# Altium integrated library WE-PD (rev22a).IntLib: 359 symbols (part 4 of 6)
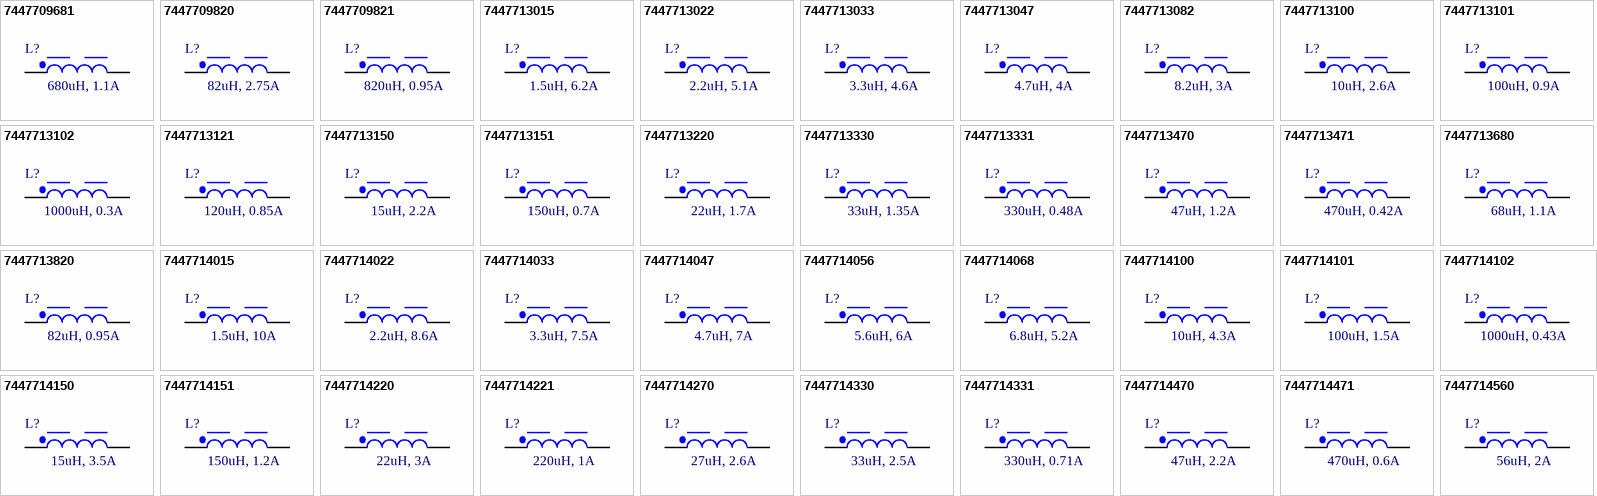
[diagram p11: symbols 7447709681 to 7447714560]

## 7447713022
designator L?, comment 2.2uH, 5.1A
WE-PD SMT Power Inductor, size 1030P, 2.2uH, 5.1A, 20mOhm; Manufacturer: Wurth Elektronik; Manufacturer Part Number: 7447713022; Self Resonant Frequency: 71MHz; DC Resistance typ.: 16.8mOhm; Saturation Current: 8.5A; Type: Performance; ComponentLink1Description: Manufacturer; ComponentLink1URL: http://www.we-online.de; ComponentLink2Description: Datasheet; ComponentLink2URL: https://www.we-online.com/catalog/datasheet/7447713022.pdf; Mounting Technology: SMT; Operating Temperature: -40 to +150degC; Packaging: Tape and Reel; DC Resistance max.: 20mOhm; Inductance: 2.2uH; Rated Current: 5.1A; Size: 1030P; Height: 3mm; Length: 10mm; Width: 10mm
footprint WE-PD_1030P
pins: 1, 2

## 7447713033
designator L?, comment 3.3uH, 4.6A
WE-PD SMT Power Inductor, size 1030P, 3.3uH, 4.6A, 24mOhm; Manufacturer: Wurth Elektronik; Manufacturer Part Number: 7447713033; Self Resonant Frequency: 50MHz; DC Resistance typ.: 20.4mOhm; Saturation Current: 7.2A; Type: Performance; ComponentLink1Description: Manufacturer; ComponentLink1URL: http://www.we-online.de; ComponentLink2Description: Datasheet; ComponentLink2URL: https://www.we-online.com/catalog/datasheet/7447713033.pdf; Mounting Technology: SMT; Operating Temperature: -40 to +150degC; Packaging: Tape and Reel; DC Resistance max.: 24mOhm; Inductance: 3.3uH; Rated Current: 4.6A; Size: 1030P; Height: 3mm; Length: 10mm; Width: 10mm
footprint WE-PD_1030P
pins: 1, 2

## 7447713047
designator L?, comment 4.7uH, 4A
WE-PD SMT Power Inductor, size 1030P, 4.7uH, 4A, 31mOhm; Manufacturer: Wurth Elektronik; Manufacturer Part Number: 7447713047; Self Resonant Frequency: 42MHz; DC Resistance typ.: 26mOhm; Saturation Current: 6A; Type: Performance; ComponentLink1Description: Manufacturer; ComponentLink1URL: http://www.we-online.de; ComponentLink2Description: Datasheet; ComponentLink2URL: https://www.we-online.com/catalog/datasheet/7447713047.pdf; Mounting Technology: SMT; Operating Temperature: -40 to +150degC; Packaging: Tape and Reel; DC Resistance max.: 31mOhm; Inductance: 4.7uH; Rated Current: 4A; Size: 1030P; Height: 3mm; Length: 10mm; Width: 10mm
footprint WE-PD_1030P
pins: 1, 2

## 7447713082
designator L?, comment 8.2uH, 3A
WE-PD SMT Power Inductor, size 1030P, 8.2uH, 3A, 49mOhm; Manufacturer: Wurth Elektronik; Manufacturer Part Number: 7447713082; Self Resonant Frequency: 30MHz; DC Resistance typ.: 41mOhm; Saturation Current: 4.7A; Type: Performance; ComponentLink1Description: Manufacturer; ComponentLink1URL: http://www.we-online.de; ComponentLink2Description: Datasheet; ComponentLink2URL: https://www.we-online.com/catalog/datasheet/7447713082.pdf; Mounting Technology: SMT; Operating Temperature: -40 to +150degC; Packaging: Tape and Reel; DC Resistance max.: 49mOhm; Inductance: 8.2uH; Rated Current: 3A; Size: 1030P; Height: 3mm; Length: 10mm; Width: 10mm
footprint WE-PD_1030P
pins: 1, 2

## 7447713100
designator L?, comment 10uH, 2.6A
WE-PD SMT Power Inductor, size 1030P, 10uH, 2.6A, 62mOhm; Manufacturer: Wurth Elektronik; Manufacturer Part Number: 7447713100; Self Resonant Frequency: 25MHz; DC Resistance typ.: 52mOhm; Saturation Current: 4.1A; Type: Performance; ComponentLink1Description: Manufacturer; ComponentLink1URL: http://www.we-online.de; ComponentLink2Description: Datasheet; ComponentLink2URL: https://www.we-online.com/catalog/datasheet/7447713100.pdf; Mounting Technology: SMT; Operating Temperature: -40 to +150degC; Packaging: Tape and Reel; DC Resistance max.: 62mOhm; Inductance: 10uH; Rated Current: 2.6A; Size: 1030P; Height: 3mm; Length: 10mm; Width: 10mm
footprint WE-PD_1030P
pins: 1, 2

## 7447713101
designator L?, comment 100uH, 0.9A
WE-PD SMT Power Inductor, size 1030P, 100uH, 0.9A, 478mOhm; Manufacturer: Wurth Elektronik; Manufacturer Part Number: 7447713101; Self Resonant Frequency: 7.7MHz; DC Resistance typ.: 398mOhm; Saturation Current: 1.4A; Type: Performance; ComponentLink1Description: Manufacturer; ComponentLink1URL: http://www.we-online.de; ComponentLink2Description: Datasheet; ComponentLink2URL: https://www.we-online.com/catalog/datasheet/7447713101.pdf; Mounting Technology: SMT; Operating Temperature: -40 to +150degC; Packaging: Tape and Reel; DC Resistance max.: 478mOhm; Inductance: 100uH; Rated Current: 0.9A; Size: 1030P; Height: 3mm; Length: 10mm; Width: 10mm
footprint WE-PD_1030P
pins: 1, 2

## 7447713102
designator L?, comment 1000uH, 0.3A
WE-PD SMT Power Inductor, size 1030P, 1000uH, 0.3A, 4600mOhm; Manufacturer: Wurth Elektronik; Manufacturer Part Number: 7447713102; Self Resonant Frequency: 2.3MHz; DC Resistance typ.: 4000mOhm; Saturation Current: 0.45A; Type: Performance; ComponentLink1Description: Manufacturer; ComponentLink1URL: http://www.we-online.de; ComponentLink2Description: Datasheet; ComponentLink2URL: https://www.we-online.com/catalog/datasheet/7447713102.pdf; Mounting Technology: SMT; Operating Temperature: -40 to +150degC; Packaging: Tape and Reel; DC Resistance max.: 4600mOhm; Inductance: 1000uH; Rated Current: 0.3A; Size: 1030P; Height: 3mm; Length: 10mm; Width: 10mm
footprint WE-PD_1030P
pins: 1, 2

## 7447713121
designator L?, comment 120uH, 0.85A
WE-PD SMT Power Inductor, size 1030P, 120uH, 0.85A, 598mOhm; Manufacturer: Wurth Elektronik; Manufacturer Part Number: 7447713121; Self Resonant Frequency: 7MHz; DC Resistance typ.: 498mOhm; Saturation Current: 1.25A; Type: Performance; ComponentLink1Description: Manufacturer; ComponentLink1URL: http://www.we-online.de; ComponentLink2Description: Datasheet; ComponentLink2URL: https://www.we-online.com/catalog/datasheet/7447713121.pdf; Mounting Technology: SMT; Operating Temperature: -40 to +150degC; Packaging: Tape and Reel; DC Resistance max.: 598mOhm; Inductance: 120uH; Rated Current: 0.85A; Size: 1030P; Height: 3mm; Length: 10mm; Width: 10mm
footprint WE-PD_1030P
pins: 1, 2

## 7447713150
designator L?, comment 15uH, 2.2A
WE-PD SMT Power Inductor, size 1030P, 15uH, 2.2A, 89mOhm; Manufacturer: Wurth Elektronik; Manufacturer Part Number: 7447713150; Self Resonant Frequency: 19.5MHz; DC Resistance typ.: 74mOhm; Saturation Current: 3.4A; Type: Performance; ComponentLink1Description: Manufacturer; ComponentLink1URL: http://www.we-online.de; ComponentLink2Description: Datasheet; ComponentLink2URL: https://www.we-online.com/catalog/datasheet/7447713150.pdf; Mounting Technology: SMT; Operating Temperature: -40 to +150degC; Packaging: Tape and Reel; DC Resistance max.: 89mOhm; Inductance: 15uH; Rated Current: 2.2A; Size: 1030P; Height: 3mm; Length: 10mm; Width: 10mm
footprint WE-PD_1030P
pins: 1, 2

## 7447713151
designator L?, comment 150uH, 0.7A
WE-PD SMT Power Inductor, size 1030P, 150uH, 0.7A, 684mOhm; Manufacturer: Wurth Elektronik; Manufacturer Part Number: 7447713151; Self Resonant Frequency: 6.1MHz; DC Resistance typ.: 570mOhm; Saturation Current: 1.1A; Type: Performance; ComponentLink1Description: Manufacturer; ComponentLink1URL: http://www.we-online.de; ComponentLink2Description: Datasheet; ComponentLink2URL: https://www.we-online.com/catalog/datasheet/7447713151.pdf; Mounting Technology: SMT; Operating Temperature: -40 to +150degC; Packaging: Tape and Reel; DC Resistance max.: 684mOhm; Inductance: 150uH; Rated Current: 0.7A; Size: 1030P; Height: 3mm; Length: 10mm; Width: 10mm
footprint WE-PD_1030P
pins: 1, 2

## 7447713220
designator L?, comment 22uH, 1.7A
WE-PD SMT Power Inductor, size 1030P, 22uH, 1.7A, 133mOhm; Manufacturer: Wurth Elektronik; Manufacturer Part Number: 7447713220; Self Resonant Frequency: 17.5MHz; DC Resistance typ.: 111mOhm; Saturation Current: 2.7A; Type: Performance; ComponentLink1Description: Manufacturer; ComponentLink1URL: http://www.we-online.de; ComponentLink2Description: Datasheet; ComponentLink2URL: https://www.we-online.com/catalog/datasheet/7447713220.pdf; Mounting Technology: SMT; Operating Temperature: -40 to +150degC; Packaging: Tape and Reel; DC Resistance max.: 133mOhm; Inductance: 22uH; Rated Current: 1.7A; Size: 1030P; Height: 3mm; Length: 10mm; Width: 10mm
footprint WE-PD_1030P
pins: 1, 2

## 7447713330
designator L?, comment 33uH, 1.35A
WE-PD SMT Power Inductor, size 1030P, 33uH, 1.35A, 204mOhm; Manufacturer: Wurth Elektronik; Manufacturer Part Number: 7447713330; Self Resonant Frequency: 13MHz; DC Resistance typ.: 170mOhm; Saturation Current: 2.2A; Type: Performance; ComponentLink1Description: Manufacturer; ComponentLink1URL: http://www.we-online.de; ComponentLink2Description: Datasheet; ComponentLink2URL: https://www.we-online.com/catalog/datasheet/7447713330.pdf; Mounting Technology: SMT; Operating Temperature: -40 to +150degC; Packaging: Tape and Reel; DC Resistance max.: 204mOhm; Inductance: 33uH; Rated Current: 1.35A; Size: 1030P; Height: 3mm; Length: 10mm; Width: 10mm
footprint WE-PD_1030P
pins: 1, 2

## 7447713331
designator L?, comment 330uH, 0.48A
WE-PD SMT Power Inductor, size 1030P, 330uH, 0.48A, 1500mOhm; Manufacturer: Wurth Elektronik; Manufacturer Part Number: 7447713331; Self Resonant Frequency: 4.3MHz; DC Resistance typ.: 1230mOhm; Saturation Current: 0.73A; Type: Performance; ComponentLink1Description: Manufacturer; ComponentLink1URL: http://www.we-online.de; ComponentLink2Description: Datasheet; ComponentLink2URL: https://www.we-online.com/catalog/datasheet/7447713331.pdf; Mounting Technology: SMT; Operating Temperature: -40 to +150degC; Packaging: Tape and Reel; DC Resistance max.: 1500mOhm; Inductance: 330uH; Rated Current: 0.48A; Size: 1030P; Height: 3mm; Length: 10mm; Width: 10mm
footprint WE-PD_1030P
pins: 1, 2

## 7447713470
designator L?, comment 47uH, 1.2A
WE-PD SMT Power Inductor, size 1030P, 47uH, 1.2A, 248mOhm; Manufacturer: Wurth Elektronik; Manufacturer Part Number: 7447713470; Self Resonant Frequency: 11.4MHz; DC Resistance typ.: 207mOhm; Saturation Current: 1.9A; Type: Performance; ComponentLink1Description: Manufacturer; ComponentLink1URL: http://www.we-online.de; ComponentLink2Description: Datasheet; ComponentLink2URL: https://www.we-online.com/catalog/datasheet/7447713470.pdf; Mounting Technology: SMT; Operating Temperature: -40 to +150degC; Packaging: Tape and Reel; DC Resistance max.: 248mOhm; Inductance: 47uH; Rated Current: 1.2A; Size: 1030P; Height: 3mm; Length: 10mm; Width: 10mm
footprint WE-PD_1030P
pins: 1, 2

## 7447713471
designator L?, comment 470uH, 0.42A
WE-PD SMT Power Inductor, size 1030P, 470uH, 0.42A, 2200mOhm; Manufacturer: Wurth Elektronik; Manufacturer Part Number: 7447713471; Self Resonant Frequency: 3.4MHz; DC Resistance typ.: 1850mOhm; Saturation Current: 0.65A; Type: Performance; ComponentLink1Description: Manufacturer; ComponentLink1URL: http://www.we-online.de; ComponentLink2Description: Datasheet; ComponentLink2URL: https://www.we-online.com/catalog/datasheet/7447713471.pdf; Mounting Technology: SMT; Operating Temperature: -40 to +150degC; Packaging: Tape and Reel; DC Resistance max.: 2200mOhm; Inductance: 470uH; Rated Current: 0.42A; Size: 1030P; Height: 3mm; Length: 10mm; Width: 10mm
footprint WE-PD_1030P
pins: 1, 2

## 7447713680
designator L?, comment 68uH, 1.1A
WE-PD SMT Power Inductor, size 1030P, 68uH, 1.1A, 330mOhm; Manufacturer: Wurth Elektronik; Manufacturer Part Number: 7447713680; Self Resonant Frequency: 9.4MHz; DC Resistance typ.: 275mOhm; Saturation Current: 1.6A; Type: Performance; ComponentLink1Description: Manufacturer; ComponentLink1URL: http://www.we-online.de; ComponentLink2Description: Datasheet; ComponentLink2URL: https://www.we-online.com/catalog/datasheet/7447713680.pdf; Mounting Technology: SMT; Operating Temperature: -40 to +150degC; Packaging: Tape and Reel; DC Resistance max.: 330mOhm; Inductance: 68uH; Rated Current: 1.1A; Size: 1030P; Height: 3mm; Length: 10mm; Width: 10mm
footprint WE-PD_1030P
pins: 1, 2

## 7447713820
designator L?, comment 82uH, 0.95A
WE-PD SMT Power Inductor, size 1030P, 82uH, 0.95A, 419mOhm; Manufacturer: Wurth Elektronik; Manufacturer Part Number: 7447713820; Self Resonant Frequency: 8.8MHz; DC Resistance typ.: 349mOhm; Saturation Current: 1.5A; Type: Performance; ComponentLink1Description: Manufacturer; ComponentLink1URL: http://www.we-online.de; ComponentLink2Description: Datasheet; ComponentLink2URL: https://www.we-online.com/catalog/datasheet/7447713820.pdf; Mounting Technology: SMT; Operating Temperature: -40 to +150degC; Packaging: Tape and Reel; DC Resistance max.: 419mOhm; Inductance: 82uH; Rated Current: 0.95A; Size: 1030P; Height: 3mm; Length: 10mm; Width: 10mm
footprint WE-PD_1030P
pins: 1, 2

## 7447714015
designator L?, comment 1.5uH, 10A
WE-PD SMT Power Inductor, size 1050P, 1.5uH, 10A, 6.6mOhm; Manufacturer: Wurth Elektronik; Manufacturer Part Number: 7447714015; Self Resonant Frequency: 69MHz; DC Resistance typ.: 5.55mOhm; Saturation Current: 12.5A; Type: Performance; ComponentLink1Description: Manufacturer; ComponentLink1URL: http://www.we-online.de; ComponentLink2Description: Datasheet; ComponentLink2URL: https://www.we-online.com/catalog/datasheet/7447714015.pdf; Mounting Technology: SMT; Operating Temperature: -40 to +150degC; Packaging: Tape and Reel; DC Resistance max.: 6.6mOhm; Inductance: 1.5uH; Rated Current: 10A; Size: 1050P; Height: 5mm; Length: 10mm; Width: 10mm
footprint WE-PD_1050P
pins: 1, 2

## 7447714022
designator L?, comment 2.2uH, 8.6A
WE-PD SMT Power Inductor, size 1050P, 2.2uH, 8.6A, 8mOhm; Manufacturer: Wurth Elektronik; Manufacturer Part Number: 7447714022; Self Resonant Frequency: 53MHz; DC Resistance typ.: 6.8mOhm; Saturation Current: 9.5A; Type: Performance; ComponentLink1Description: Manufacturer; ComponentLink1URL: http://www.we-online.de; ComponentLink2Description: Datasheet; ComponentLink2URL: https://www.we-online.com/catalog/datasheet/7447714022.pdf; Mounting Technology: SMT; Operating Temperature: -40 to +150degC; Packaging: Tape and Reel; DC Resistance max.: 8mOhm; Inductance: 2.2uH; Rated Current: 8.6A; Size: 1050P; Height: 5mm; Length: 10mm; Width: 10mm
footprint WE-PD_1050P
pins: 1, 2

## 7447714033
designator L?, comment 3.3uH, 7.5A
WE-PD SMT Power Inductor, size 1050P, 3.3uH, 7.5A, 10.5mOhm; Manufacturer: Wurth Elektronik; Manufacturer Part Number: 7447714033; Self Resonant Frequency: 42MHz; DC Resistance typ.: 8.9mOhm; Saturation Current: 9A; Type: Performance; ComponentLink1Description: Manufacturer; ComponentLink1URL: http://www.we-online.de; ComponentLink2Description: Datasheet; ComponentLink2URL: https://www.we-online.com/catalog/datasheet/7447714033.pdf; Mounting Technology: SMT; Operating Temperature: -40 to +150degC; Packaging: Tape and Reel; DC Resistance max.: 10.5mOhm; Inductance: 3.3uH; Rated Current: 7.5A; Size: 1050P; Height: 5mm; Length: 10mm; Width: 10mm
footprint WE-PD_1050P
pins: 1, 2

## 7447714047
designator L?, comment 4.7uH, 7A
WE-PD SMT Power Inductor, size 1050P, 4.7uH, 7A, 12.4mOhm; Manufacturer: Wurth Elektronik; Manufacturer Part Number: 7447714047; Self Resonant Frequency: 34MHz; DC Resistance typ.: 10.4mOhm; Saturation Current: 8A; Type: Performance; ComponentLink1Description: Manufacturer; ComponentLink1URL: http://www.we-online.de; ComponentLink2Description: Datasheet; ComponentLink2URL: https://www.we-online.com/catalog/datasheet/7447714047.pdf; Mounting Technology: SMT; Operating Temperature: -40 to +150degC; Packaging: Tape and Reel; DC Resistance max.: 12.4mOhm; Inductance: 4.7uH; Rated Current: 7A; Size: 1050P; Height: 5mm; Length: 10mm; Width: 10mm
footprint WE-PD_1050P
pins: 1, 2

## 7447714056
designator L?, comment 5.6uH, 6A
WE-PD SMT Power Inductor, size 1050P, 5.6uH, 6A, 14.4mOhm; Manufacturer: Wurth Elektronik; Manufacturer Part Number: 7447714056; Self Resonant Frequency: 28MHz; DC Resistance typ.: 12mOhm; Saturation Current: 7.2A; Type: Performance; ComponentLink1Description: Manufacturer; ComponentLink1URL: http://www.we-online.de; ComponentLink2Description: Datasheet; ComponentLink2URL: https://www.we-online.com/catalog/datasheet/7447714056.pdf; Mounting Technology: SMT; Operating Temperature: -40 to +150degC; Packaging: Tape and Reel; DC Resistance max.: 14.4mOhm; Inductance: 5.6uH; Rated Current: 6A; Size: 1050P; Height: 5mm; Length: 10mm; Width: 10mm
footprint WE-PD_1050P
pins: 1, 2

## 7447714068
designator L?, comment 6.8uH, 5.2A
WE-PD SMT Power Inductor, size 1050P, 6.8uH, 5.2A, 22mOhm; Manufacturer: Wurth Elektronik; Manufacturer Part Number: 7447714068; Self Resonant Frequency: 23.5MHz; DC Resistance typ.: 18.5mOhm; Saturation Current: 5.8A; Type: Performance; ComponentLink1Description: Manufacturer; ComponentLink1URL: http://www.we-online.de; ComponentLink2Description: Datasheet; ComponentLink2URL: https://www.we-online.com/catalog/datasheet/7447714068.pdf; Mounting Technology: SMT; Operating Temperature: -40 to +150degC; Packaging: Tape and Reel; DC Resistance max.: 22mOhm; Inductance: 6.8uH; Rated Current: 5.2A; Size: 1050P; Height: 5mm; Length: 10mm; Width: 10mm
footprint WE-PD_1050P
pins: 1, 2

## 7447714100
designator L?, comment 10uH, 4.3A
WE-PD SMT Power Inductor, size 1050P, 10uH, 4.3A, 27mOhm; Manufacturer: Wurth Elektronik; Manufacturer Part Number: 7447714100; Self Resonant Frequency: 20.5MHz; DC Resistance typ.: 23mOhm; Saturation Current: 5A; Type: Performance; ComponentLink1Description: Manufacturer; ComponentLink1URL: http://www.we-online.de; ComponentLink2Description: Datasheet; ComponentLink2URL: https://www.we-online.com/catalog/datasheet/7447714100.pdf; Mounting Technology: SMT; Operating Temperature: -40 to +150degC; Packaging: Tape and Reel; DC Resistance max.: 27mOhm; Inductance: 10uH; Rated Current: 4.3A; Size: 1050P; Height: 5mm; Length: 10mm; Width: 10mm
footprint WE-PD_1050P
pins: 1, 2

## 7447714101
designator L?, comment 100uH, 1.5A
WE-PD SMT Power Inductor, size 1050P, 100uH, 1.5A, 198mOhm; Manufacturer: Wurth Elektronik; Manufacturer Part Number: 7447714101; Self Resonant Frequency: 5.9MHz; DC Resistance typ.: 165mOhm; Saturation Current: 1.8A; Type: Performance; ComponentLink1Description: Manufacturer; ComponentLink1URL: http://www.we-online.de; ComponentLink2Description: Datasheet; ComponentLink2URL: https://www.we-online.com/catalog/datasheet/7447714101.pdf; Mounting Technology: SMT; Operating Temperature: -40 to +150degC; Packaging: Tape and Reel; DC Resistance max.: 198mOhm; Inductance: 100uH; Rated Current: 1.5A; Size: 1050P; Height: 5mm; Length: 10mm; Width: 10mm
footprint WE-PD_1050P
pins: 1, 2

## 7447714102
designator L?, comment 1000uH, 0.43A
WE-PD SMT Power Inductor, size 1050P, 1000uH, 0.43A, 2050mOhm; Manufacturer: Wurth Elektronik; Manufacturer Part Number: 7447714102; Self Resonant Frequency: 1.7MHz; DC Resistance typ.: 1860mOhm; Saturation Current: 0.55A; Type: Performance; ComponentLink1Description: Manufacturer; ComponentLink1URL: http://www.we-online.de; ComponentLink2Description: Datasheet; ComponentLink2URL: https://www.we-online.com/catalog/datasheet/7447714102.pdf; Mounting Technology: SMT; Operating Temperature: -40 to +150degC; Packaging: Tape and Reel; DC Resistance max.: 2050mOhm; Inductance: 1000uH; Rated Current: 0.43A; Size: 1050P; Height: 5mm; Length: 10mm; Width: 10mm
footprint WE-PD_1050P
pins: 1, 2

## 7447714150
designator L?, comment 15uH, 3.5A
WE-PD SMT Power Inductor, size 1050P, 15uH, 3.5A, 43mOhm; Manufacturer: Wurth Elektronik; Manufacturer Part Number: 7447714150; Self Resonant Frequency: 16.8MHz; DC Resistance typ.: 36mOhm; Saturation Current: 4.1A; Type: Performance; ComponentLink1Description: Manufacturer; ComponentLink1URL: http://www.we-online.de; ComponentLink2Description: Datasheet; ComponentLink2URL: https://www.we-online.com/catalog/datasheet/7447714150.pdf; Mounting Technology: SMT; Operating Temperature: -40 to +150degC; Packaging: Tape and Reel; DC Resistance max.: 43mOhm; Inductance: 15uH; Rated Current: 3.5A; Size: 1050P; Height: 5mm; Length: 10mm; Width: 10mm
footprint WE-PD_1050P
pins: 1, 2

## 7447714151
designator L?, comment 150uH, 1.2A
WE-PD SMT Power Inductor, size 1050P, 150uH, 1.2A, 300mOhm; Manufacturer: Wurth Elektronik; Manufacturer Part Number: 7447714151; Self Resonant Frequency: 4.9MHz; DC Resistance typ.: 251mOhm; Saturation Current: 1.4A; Type: Performance; ComponentLink1Description: Manufacturer; ComponentLink1URL: http://www.we-online.de; ComponentLink2Description: Datasheet; ComponentLink2URL: https://www.we-online.com/catalog/datasheet/7447714151.pdf; Mounting Technology: SMT; Operating Temperature: -40 to +150degC; Packaging: Tape and Reel; DC Resistance max.: 300mOhm; Inductance: 150uH; Rated Current: 1.2A; Size: 1050P; Height: 5mm; Length: 10mm; Width: 10mm
footprint WE-PD_1050P
pins: 1, 2

## 7447714220
designator L?, comment 22uH, 3A
WE-PD SMT Power Inductor, size 1050P, 22uH, 3A, 50mOhm; Manufacturer: Wurth Elektronik; Manufacturer Part Number: 7447714220; Self Resonant Frequency: 14.5MHz; DC Resistance typ.: 42mOhm; Saturation Current: 3.6A; Type: Performance; ComponentLink1Description: Manufacturer; ComponentLink1URL: http://www.we-online.de; ComponentLink2Description: Datasheet; ComponentLink2URL: https://www.we-online.com/catalog/datasheet/7447714220.pdf; Mounting Technology: SMT; Operating Temperature: -40 to +150degC; Packaging: Tape and Reel; DC Resistance max.: 50mOhm; Inductance: 22uH; Rated Current: 3A; Size: 1050P; Height: 5mm; Length: 10mm; Width: 10mm
footprint WE-PD_1050P
pins: 1, 2

## 7447714221
designator L?, comment 220uH, 1A
WE-PD SMT Power Inductor, size 1050P, 220uH, 1A, 439mOhm; Manufacturer: Wurth Elektronik; Manufacturer Part Number: 7447714221; Self Resonant Frequency: 4.3MHz; DC Resistance typ.: 366mOhm; Saturation Current: 1.2A; Type: Performance; ComponentLink1Description: Manufacturer; ComponentLink1URL: http://www.we-online.de; ComponentLink2Description: Datasheet; ComponentLink2URL: https://www.we-online.com/catalog/datasheet/7447714221.pdf; Mounting Technology: SMT; Operating Temperature: -40 to +150degC; Packaging: Tape and Reel; DC Resistance max.: 439mOhm; Inductance: 220uH; Rated Current: 1A; Size: 1050P; Height: 5mm; Length: 10mm; Width: 10mm
footprint WE-PD_1050P
pins: 1, 2

## 7447714270
designator L?, comment 27uH, 2.6A
WE-PD SMT Power Inductor, size 1050P, 27uH, 2.6A, 74mOhm; Manufacturer: Wurth Elektronik; Manufacturer Part Number: 7447714270; Self Resonant Frequency: 14MHz; DC Resistance typ.: 63mOhm; Saturation Current: 3.4A; Type: Performance; ComponentLink1Description: Manufacturer; ComponentLink1URL: http://www.we-online.de; ComponentLink2Description: Datasheet; ComponentLink2URL: https://www.we-online.com/catalog/datasheet/7447714270.pdf; Mounting Technology: SMT; Operating Temperature: -40 to +150degC; Packaging: Tape and Reel; DC Resistance max.: 74mOhm; Inductance: 27uH; Rated Current: 2.6A; Size: 1050P; Height: 5mm; Length: 10mm; Width: 10mm
footprint WE-PD_1050P
pins: 1, 2

## 7447714330
designator L?, comment 33uH, 2.5A
WE-PD SMT Power Inductor, size 1050P, 33uH, 2.5A, 79mOhm; Manufacturer: Wurth Elektronik; Manufacturer Part Number: 7447714330; Self Resonant Frequency: 11.1MHz; DC Resistance typ.: 66mOhm; Saturation Current: 2.9A; Type: Performance; ComponentLink1Description: Manufacturer; ComponentLink1URL: http://www.we-online.de; ComponentLink2Description: Datasheet; ComponentLink2URL: https://www.we-online.com/catalog/datasheet/7447714330.pdf; Mounting Technology: SMT; Operating Temperature: -40 to +150degC; Packaging: Tape and Reel; DC Resistance max.: 79mOhm; Inductance: 33uH; Rated Current: 2.5A; Size: 1050P; Height: 5mm; Length: 10mm; Width: 10mm
footprint WE-PD_1050P
pins: 1, 2

## 7447714331
designator L?, comment 330uH, 0.71A
WE-PD SMT Power Inductor, size 1050P, 330uH, 0.71A, 750mOhm; Manufacturer: Wurth Elektronik; Manufacturer Part Number: 7447714331; Self Resonant Frequency: 3.15MHz; DC Resistance typ.: 655mOhm; Saturation Current: 1A; Type: Performance; ComponentLink1Description: Manufacturer; ComponentLink1URL: http://www.we-online.de; ComponentLink2Description: Datasheet; ComponentLink2URL: https://www.we-online.com/catalog/datasheet/7447714331.pdf; Mounting Technology: SMT; Operating Temperature: -40 to +150degC; Packaging: Tape and Reel; DC Resistance max.: 750mOhm; Inductance: 330uH; Rated Current: 0.71A; Size: 1050P; Height: 5mm; Length: 10mm; Width: 10mm
footprint WE-PD_1050P
pins: 1, 2

## 7447714470
designator L?, comment 47uH, 2.2A
WE-PD SMT Power Inductor, size 1050P, 47uH, 2.2A, 99mOhm; Manufacturer: Wurth Elektronik; Manufacturer Part Number: 7447714470; Self Resonant Frequency: 8.8MHz; DC Resistance typ.: 83mOhm; Saturation Current: 2.5A; Type: Performance; ComponentLink1Description: Manufacturer; ComponentLink1URL: http://www.we-online.de; ComponentLink2Description: Datasheet; ComponentLink2URL: https://www.we-online.com/catalog/datasheet/7447714470.pdf; Mounting Technology: SMT; Operating Temperature: -40 to +150degC; Packaging: Tape and Reel; DC Resistance max.: 99mOhm; Inductance: 47uH; Rated Current: 2.2A; Size: 1050P; Height: 5mm; Length: 10mm; Width: 10mm
footprint WE-PD_1050P
pins: 1, 2

## 7447714471
designator L?, comment 470uH, 0.6A
WE-PD SMT Power Inductor, size 1050P, 470uH, 0.6A, 1100mOhm; Manufacturer: Wurth Elektronik; Manufacturer Part Number: 7447714471; Self Resonant Frequency: 2.5MHz; DC Resistance typ.: 960mOhm; Saturation Current: 0.82A; Type: Performance; ComponentLink1Description: Manufacturer; ComponentLink1URL: http://www.we-online.de; ComponentLink2Description: Datasheet; ComponentLink2URL: https://www.we-online.com/catalog/datasheet/7447714471.pdf; Mounting Technology: SMT; Operating Temperature: -40 to +150degC; Packaging: Tape and Reel; DC Resistance max.: 1100mOhm; Inductance: 470uH; Rated Current: 0.6A; Size: 1050P; Height: 5mm; Length: 10mm; Width: 10mm
footprint WE-PD_1050P
pins: 1, 2

## 7447714560
designator L?, comment 56uH, 2A
WE-PD SMT Power Inductor, size 1050P, 56uH, 2A, 121mOhm; Manufacturer: Wurth Elektronik; Manufacturer Part Number: 7447714560; Self Resonant Frequency: 8.6MHz; DC Resistance typ.: 101mOhm; Saturation Current: 2.3A; Type: Performance; ComponentLink1Description: Manufacturer; ComponentLink1URL: http://www.we-online.de; ComponentLink2Description: Datasheet; ComponentLink2URL: https://www.we-online.com/catalog/datasheet/7447714560.pdf; Mounting Technology: SMT; Operating Temperature: -40 to +150degC; Packaging: Tape and Reel; DC Resistance max.: 121mOhm; Inductance: 56uH; Rated Current: 2A; Size: 1050P; Height: 5mm; Length: 10mm; Width: 10mm
footprint WE-PD_1050P
pins: 1, 2

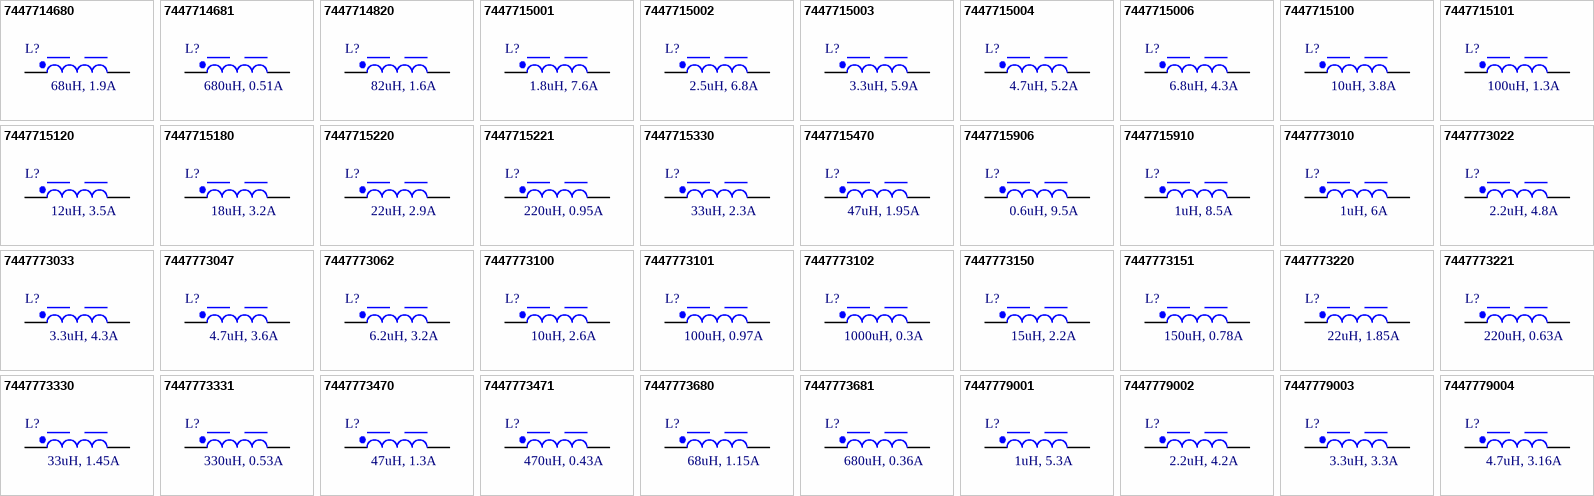
[diagram p6: symbols 7447714680 to 7447779004]

## 7447714680
designator L?, comment 68uH, 1.9A
WE-PD SMT Power Inductor, size 1050P, 68uH, 1.9A, 132mOhm; Manufacturer: Wurth Elektronik; Manufacturer Part Number: 7447714680; Self Resonant Frequency: 8MHz; DC Resistance typ.: 110mOhm; Saturation Current: 2.2A; Type: Performance; ComponentLink1Description: Manufacturer; ComponentLink1URL: http://www.we-online.de; ComponentLink2Description: Datasheet; ComponentLink2URL: https://www.we-online.com/catalog/datasheet/7447714680.pdf; Mounting Technology: SMT; Operating Temperature: -40 to +150degC; Packaging: Tape and Reel; DC Resistance max.: 132mOhm; Inductance: 68uH; Rated Current: 1.9A; Size: 1050P; Height: 5mm; Length: 10mm; Width: 10mm
footprint WE-PD_1050P
pins: 1, 2

## 7447714681
designator L?, comment 680uH, 0.51A
WE-PD SMT Power Inductor, size 1050P, 680uH, 0.51A, 1220mOhm; Manufacturer: Wurth Elektronik; Manufacturer Part Number: 7447714681; Self Resonant Frequency: 2.05MHz; DC Resistance typ.: 1140mOhm; Saturation Current: 0.71A; Type: Performance; ComponentLink1Description: Manufacturer; ComponentLink1URL: http://www.we-online.de; ComponentLink2Description: Datasheet; ComponentLink2URL: https://www.we-online.com/catalog/datasheet/7447714681.pdf; Mounting Technology: SMT; Operating Temperature: -40 to +150degC; Packaging: Tape and Reel; DC Resistance max.: 1220mOhm; Inductance: 680uH; Rated Current: 0.51A; Size: 1050P; Height: 5mm; Length: 10mm; Width: 10mm
footprint WE-PD_1050P
pins: 1, 2

## 7447714820
designator L?, comment 82uH, 1.6A
WE-PD SMT Power Inductor, size 1050P, 82uH, 1.6A, 176mOhm; Manufacturer: Wurth Elektronik; Manufacturer Part Number: 7447714820; Self Resonant Frequency: 6.6MHz; DC Resistance typ.: 147mOhm; Saturation Current: 1.85A; Type: Performance; ComponentLink1Description: Manufacturer; ComponentLink1URL: http://www.we-online.de; ComponentLink2Description: Datasheet; ComponentLink2URL: https://www.we-online.com/catalog/datasheet/7447714820.pdf; Mounting Technology: SMT; Operating Temperature: -40 to +150degC; Packaging: Tape and Reel; DC Resistance max.: 176mOhm; Inductance: 82uH; Rated Current: 1.6A; Size: 1050P; Height: 5mm; Length: 10mm; Width: 10mm
footprint WE-PD_1050P
pins: 1, 2

## 7447715001
designator L?, comment 1.8uH, 7.6A
WE-PD SMT Power Inductor, size 1245, 1.8uH, 7.6A, 9.5mOhm; Manufacturer: Wurth Elektronik; Manufacturer Part Number: 7447715001; Self Resonant Frequency: 76MHz; DC Resistance typ.: 7.5mOhm; Saturation Current: 10.2A; Type: Standard; ComponentLink1Description: Manufacturer; ComponentLink1URL: http://www.we-online.de; ComponentLink2Description: Datasheet; ComponentLink2URL: https://www.we-online.com/catalog/datasheet/7447715001.pdf; Mounting Technology: SMT; Operating Temperature: -40 to +125degC; Packaging: Tape and Reel; DC Resistance max.: 9.5mOhm; Inductance: 1.8uH; Rated Current: 7.6A; Size: 1245; Height: 4.5mm; Length: 12mm; Width: 12mm
footprint WE-PD_1245
pins: 1, 2

## 7447715002
designator L?, comment 2.5uH, 6.8A
WE-PD SMT Power Inductor, size 1245, 2.5uH, 6.8A, 11mOhm; Manufacturer: Wurth Elektronik; Manufacturer Part Number: 7447715002; Self Resonant Frequency: 50MHz; DC Resistance typ.: 8.5mOhm; Saturation Current: 8.5A; Type: Standard; ComponentLink1Description: Manufacturer; ComponentLink1URL: http://www.we-online.de; ComponentLink2Description: Datasheet; ComponentLink2URL: https://www.we-online.com/catalog/datasheet/7447715002.pdf; Mounting Technology: SMT; Operating Temperature: -40 to +125degC; Packaging: Tape and Reel; DC Resistance max.: 11mOhm; Inductance: 2.5uH; Rated Current: 6.8A; Size: 1245; Height: 4.5mm; Length: 12mm; Width: 12mm
footprint WE-PD_1245
pins: 1, 2

## 7447715003
designator L?, comment 3.3uH, 5.9A
WE-PD SMT Power Inductor, size 1245, 3.3uH, 5.9A, 13mOhm; Manufacturer: Wurth Elektronik; Manufacturer Part Number: 7447715003; Self Resonant Frequency: 40MHz; DC Resistance typ.: 11.5mOhm; Saturation Current: 7.1A; Type: Standard; ComponentLink1Description: Manufacturer; ComponentLink1URL: http://www.we-online.de; ComponentLink2Description: Datasheet; ComponentLink2URL: https://www.we-online.com/catalog/datasheet/7447715003.pdf; Mounting Technology: SMT; Operating Temperature: -40 to +125degC; Packaging: Tape and Reel; DC Resistance max.: 13mOhm; Inductance: 3.3uH; Rated Current: 5.9A; Size: 1245; Height: 4.5mm; Length: 12mm; Width: 12mm
footprint WE-PD_1245
pins: 1, 2

## 7447715004
designator L?, comment 4.7uH, 5.2A
WE-PD SMT Power Inductor, size 1245, 4.7uH, 5.2A, 16mOhm; Manufacturer: Wurth Elektronik; Manufacturer Part Number: 7447715004; Self Resonant Frequency: 37MHz; DC Resistance typ.: 13.5mOhm; Saturation Current: 6.3A; Type: Standard; ComponentLink1Description: Manufacturer; ComponentLink1URL: http://www.we-online.de; ComponentLink2Description: Datasheet; ComponentLink2URL: https://www.we-online.com/catalog/datasheet/7447715004.pdf; Mounting Technology: SMT; Operating Temperature: -40 to +125degC; Packaging: Tape and Reel; DC Resistance max.: 16mOhm; Inductance: 4.7uH; Rated Current: 5.2A; Size: 1245; Height: 4.5mm; Length: 12mm; Width: 12mm
footprint WE-PD_1245
pins: 1, 2

## 7447715006
designator L?, comment 6.8uH, 4.3A
WE-PD SMT Power Inductor, size 1245, 6.8uH, 4.3A, 25mOhm; Manufacturer: Wurth Elektronik; Manufacturer Part Number: 7447715006; Self Resonant Frequency: 27MHz; DC Resistance typ.: 20mOhm; Saturation Current: 4.7A; Type: Standard; ComponentLink1Description: Manufacturer; ComponentLink1URL: http://www.we-online.de; ComponentLink2Description: Datasheet; ComponentLink2URL: https://www.we-online.com/catalog/datasheet/7447715006.pdf; Mounting Technology: SMT; Operating Temperature: -40 to +125degC; Packaging: Tape and Reel; DC Resistance max.: 25mOhm; Inductance: 6.8uH; Rated Current: 4.3A; Size: 1245; Height: 4.5mm; Length: 12mm; Width: 12mm
footprint WE-PD_1245
pins: 1, 2

## 7447715100
designator L?, comment 10uH, 3.8A
WE-PD SMT Power Inductor, size 1245, 10uH, 3.8A, 30mOhm; Manufacturer: Wurth Elektronik; Manufacturer Part Number: 7447715100; Self Resonant Frequency: 22MHz; DC Resistance typ.: 25mOhm; Saturation Current: 4.2A; Type: Standard; ComponentLink1Description: Manufacturer; ComponentLink1URL: http://www.we-online.de; ComponentLink2Description: Datasheet; ComponentLink2URL: https://www.we-online.com/catalog/datasheet/7447715100.pdf; Mounting Technology: SMT; Operating Temperature: -40 to +125degC; Packaging: Tape and Reel; DC Resistance max.: 30mOhm; Inductance: 10uH; Rated Current: 3.8A; Size: 1245; Height: 4.5mm; Length: 12mm; Width: 12mm
footprint WE-PD_1245
pins: 1, 2

## 7447715101
designator L?, comment 100uH, 1.3A
WE-PD SMT Power Inductor, size 1245, 100uH, 1.3A, 270mOhm; Manufacturer: Wurth Elektronik; Manufacturer Part Number: 7447715101; Self Resonant Frequency: 6.9MHz; DC Resistance typ.: 250mOhm; Saturation Current: 1.4A; Type: Standard; ComponentLink1Description: Manufacturer; ComponentLink1URL: http://www.we-online.de; ComponentLink2Description: Datasheet; ComponentLink2URL: https://www.we-online.com/catalog/datasheet/7447715101.pdf; Mounting Technology: SMT; Operating Temperature: -40 to +125degC; Packaging: Tape and Reel; DC Resistance max.: 270mOhm; Inductance: 100uH; Rated Current: 1.3A; Size: 1245; Height: 4.5mm; Length: 12mm; Width: 12mm
footprint WE-PD_1245
pins: 1, 2

## 7447715120
designator L?, comment 12uH, 3.5A
WE-PD SMT Power Inductor, size 1245, 12uH, 3.5A, 38mOhm; Manufacturer: Wurth Elektronik; Manufacturer Part Number: 7447715120; Self Resonant Frequency: 19MHz; DC Resistance typ.: 30mOhm; Saturation Current: 3.6A; Type: Standard; ComponentLink1Description: Manufacturer; ComponentLink1URL: http://www.we-online.de; ComponentLink2Description: Datasheet; ComponentLink2URL: https://www.we-online.com/catalog/datasheet/7447715120.pdf; Mounting Technology: SMT; Operating Temperature: -40 to +125degC; Packaging: Tape and Reel; DC Resistance max.: 38mOhm; Inductance: 12uH; Rated Current: 3.5A; Size: 1245; Height: 4.5mm; Length: 12mm; Width: 12mm
footprint WE-PD_1245
pins: 1, 2

## 7447715180
designator L?, comment 18uH, 3.2A
WE-PD SMT Power Inductor, size 1245, 18uH, 3.2A, 51mOhm; Manufacturer: Wurth Elektronik; Manufacturer Part Number: 7447715180; Self Resonant Frequency: 17MHz; DC Resistance typ.: 37mOhm; Type: Standard; ComponentLink1Description: Manufacturer; ComponentLink1URL: http://www.we-online.de; ComponentLink2Description: Datasheet; ComponentLink2URL: https://www.we-online.com/catalog/datasheet/7447715180.pdf; Mounting Technology: SMT; Operating Temperature: -40 to +125degC; Packaging: Tape and Reel; DC Resistance max.: 51mOhm; Inductance: 18uH; Saturation Current: 3.2A; Rated Current: 3.2A; Size: 1245; Height: 4.5mm; Length: 12mm; Width: 12mm
footprint WE-PD_1245
pins: 1, 2

## 7447715220
designator L?, comment 22uH, 2.9A
WE-PD SMT Power Inductor, size 1245, 22uH, 2.9A, 65mOhm; Manufacturer: Wurth Elektronik; Manufacturer Part Number: 7447715220; Self Resonant Frequency: 15.5MHz; DC Resistance typ.: 45mOhm; Saturation Current: 3.1A; Type: Standard; ComponentLink1Description: Manufacturer; ComponentLink1URL: http://www.we-online.de; ComponentLink2Description: Datasheet; ComponentLink2URL: https://www.we-online.com/catalog/datasheet/7447715220.pdf; Mounting Technology: SMT; Operating Temperature: -40 to +125degC; Packaging: Tape and Reel; DC Resistance max.: 65mOhm; Inductance: 22uH; Rated Current: 2.9A; Size: 1245; Height: 4.5mm; Length: 12mm; Width: 12mm
footprint WE-PD_1245
pins: 1, 2

## 7447715221
designator L?, comment 220uH, 0.95A
WE-PD SMT Power Inductor, size 1245, 220uH, 0.95A, 480mOhm; Manufacturer: Wurth Elektronik; Manufacturer Part Number: 7447715221; Self Resonant Frequency: 4.7MHz; DC Resistance typ.: 460mOhm; Saturation Current: 1A; Type: Standard; ComponentLink1Description: Manufacturer; ComponentLink1URL: http://www.we-online.de; ComponentLink2Description: Datasheet; ComponentLink2URL: https://www.we-online.com/catalog/datasheet/7447715221.pdf; Mounting Technology: SMT; Operating Temperature: -40 to +125degC; Packaging: Tape and Reel; DC Resistance max.: 480mOhm; Inductance: 220uH; Rated Current: 0.95A; Size: 1245; Height: 4.5mm; Length: 12mm; Width: 12mm
footprint WE-PD_1245
pins: 1, 2

## 7447715330
designator L?, comment 33uH, 2.3A
WE-PD SMT Power Inductor, size 1245, 33uH, 2.3A, 85mOhm; Manufacturer: Wurth Elektronik; Manufacturer Part Number: 7447715330; Self Resonant Frequency: 13MHz; DC Resistance typ.: 75mOhm; Saturation Current: 2.5A; Type: Standard; ComponentLink1Description: Manufacturer; ComponentLink1URL: http://www.we-online.de; ComponentLink2Description: Datasheet; ComponentLink2URL: https://www.we-online.com/catalog/datasheet/7447715330.pdf; Mounting Technology: SMT; Operating Temperature: -40 to +125degC; Packaging: Tape and Reel; DC Resistance max.: 85mOhm; Inductance: 33uH; Rated Current: 2.3A; Size: 1245; Height: 4.5mm; Length: 12mm; Width: 12mm
footprint WE-PD_1245
pins: 1, 2

## 7447715470
designator L?, comment 47uH, 1.95A
WE-PD SMT Power Inductor, size 1245, 47uH, 1.95A, 125mOhm; Manufacturer: Wurth Elektronik; Manufacturer Part Number: 7447715470; Self Resonant Frequency: 9.7MHz; DC Resistance typ.: 105mOhm; Saturation Current: 2.1A; Type: Standard; ComponentLink1Description: Manufacturer; ComponentLink1URL: http://www.we-online.de; ComponentLink2Description: Datasheet; ComponentLink2URL: https://www.we-online.com/catalog/datasheet/7447715470.pdf; Mounting Technology: SMT; Operating Temperature: -40 to +125degC; Packaging: Tape and Reel; DC Resistance max.: 125mOhm; Inductance: 47uH; Rated Current: 1.95A; Size: 1245; Height: 4.5mm; Length: 12mm; Width: 12mm
footprint WE-PD_1245
pins: 1, 2

## 7447715906
designator L?, comment 0.6uH, 9.5A
WE-PD SMT Power Inductor, size 1245, 0.6uH, 9.5A, 5.5mOhm; Manufacturer: Wurth Elektronik; Manufacturer Part Number: 7447715906; Self Resonant Frequency: 160MHz; DC Resistance typ.: 4.5mOhm; Saturation Current: 19A; Type: Standard; ComponentLink1Description: Manufacturer; ComponentLink1URL: http://www.we-online.de; ComponentLink2Description: Datasheet; ComponentLink2URL: https://www.we-online.com/catalog/datasheet/7447715906.pdf; Mounting Technology: SMT; Operating Temperature: -40 to +125degC; Packaging: Tape and Reel; DC Resistance max.: 5.5mOhm; Inductance: 0.6uH; Rated Current: 9.5A; Size: 1245; Height: 4.5mm; Length: 12mm; Width: 12mm
footprint WE-PD_1245
pins: 1, 2

## 7447715910
designator L?, comment 1uH, 8.5A
WE-PD SMT Power Inductor, size 1245, 1uH, 8.5A, 7mOhm; Manufacturer: Wurth Elektronik; Manufacturer Part Number: 7447715910; Self Resonant Frequency: 98MHz; DC Resistance typ.: 5.5mOhm; Saturation Current: 13.9A; Type: Standard; ComponentLink1Description: Manufacturer; ComponentLink1URL: http://www.we-online.de; ComponentLink2Description: Datasheet; ComponentLink2URL: https://www.we-online.com/catalog/datasheet/7447715910.pdf; Mounting Technology: SMT; Operating Temperature: -40 to +125degC; Packaging: Tape and Reel; DC Resistance max.: 7mOhm; Inductance: 1uH; Rated Current: 8.5A; Size: 1245; Height: 4.5mm; Length: 12mm; Width: 12mm
footprint WE-PD_1245
pins: 1, 2

## 7447773010
designator L?, comment 1uH, 6A
WE-PD SMT Power Inductor, size 7345P, 1uH, 6A, 12mOhm; Manufacturer: Wurth Elektronik; Manufacturer Part Number: 7447773010; Self Resonant Frequency: 98MHz; DC Resistance typ.: 8.4mOhm; Saturation Current: 10A; Type: Performance; ComponentLink1Description: Manufacturer; ComponentLink1URL: http://www.we-online.de; ComponentLink2Description: Datasheet; ComponentLink2URL: https://www.we-online.com/catalog/datasheet/7447773010.pdf; Mounting Technology: SMT; Operating Temperature: -40 to +150degC; Packaging: Tape and Reel; DC Resistance max.: 12mOhm; Inductance: 1uH; Rated Current: 6A; Size: 7345P; Height: 4.5mm; Length: 7.3mm; Width: 7.4mm
footprint WE-PD_7345P
pins: 1, 2

## 7447773022
designator L?, comment 2.2uH, 4.8A
WE-PD SMT Power Inductor, size 7345P, 2.2uH, 4.8A, 17.5mOhm; Manufacturer: Wurth Elektronik; Manufacturer Part Number: 7447773022; Self Resonant Frequency: 61MHz; DC Resistance typ.: 12.5mOhm; Saturation Current: 8A; Type: Performance; ComponentLink1Description: Manufacturer; ComponentLink1URL: http://www.we-online.de; ComponentLink2Description: Datasheet; ComponentLink2URL: https://www.we-online.com/catalog/datasheet/7447773022.pdf; Mounting Technology: SMT; Operating Temperature: -40 to +150degC; Packaging: Tape and Reel; DC Resistance max.: 17.5mOhm; Inductance: 2.2uH; Rated Current: 4.8A; Size: 7345P; Height: 4.5mm; Length: 7.3mm; Width: 7.4mm
footprint WE-PD_7345P
pins: 1, 2

## 7447773033
designator L?, comment 3.3uH, 4.3A
WE-PD SMT Power Inductor, size 7345P, 3.3uH, 4.3A, 21mOhm; Manufacturer: Wurth Elektronik; Manufacturer Part Number: 7447773033; Self Resonant Frequency: 51MHz; DC Resistance typ.: 15.5mOhm; Saturation Current: 6.6A; Type: Performance; ComponentLink1Description: Manufacturer; ComponentLink1URL: http://www.we-online.de; ComponentLink2Description: Datasheet; ComponentLink2URL: https://www.we-online.com/catalog/datasheet/7447773033.pdf; Mounting Technology: SMT; Operating Temperature: -40 to +150degC; Packaging: Tape and Reel; DC Resistance max.: 21mOhm; Inductance: 3.3uH; Rated Current: 4.3A; Size: 7345P; Height: 4.5mm; Length: 7.3mm; Width: 7.4mm
footprint WE-PD_7345P
pins: 1, 2

## 7447773047
designator L?, comment 4.7uH, 3.6A
WE-PD SMT Power Inductor, size 7345P, 4.7uH, 3.6A, 26mOhm; Manufacturer: Wurth Elektronik; Manufacturer Part Number: 7447773047; Self Resonant Frequency: 35.5MHz; DC Resistance typ.: 20mOhm; Saturation Current: 5.5A; Type: Performance; ComponentLink1Description: Manufacturer; ComponentLink1URL: http://www.we-online.de; ComponentLink2Description: Datasheet; ComponentLink2URL: https://www.we-online.com/catalog/datasheet/7447773047.pdf; Mounting Technology: SMT; Operating Temperature: -40 to +150degC; Packaging: Tape and Reel; DC Resistance max.: 26mOhm; Inductance: 4.7uH; Rated Current: 3.6A; Size: 7345P; Height: 4.5mm; Length: 7.3mm; Width: 7.4mm
footprint WE-PD_7345P
pins: 1, 2

## 7447773062
designator L?, comment 6.2uH, 3.2A
WE-PD SMT Power Inductor, size 7345P, 6.2uH, 3.2A, 30mOhm; Manufacturer: Wurth Elektronik; Manufacturer Part Number: 7447773062; Self Resonant Frequency: 31MHz; DC Resistance typ.: 25mOhm; Saturation Current: 4.8A; Type: Performance; ComponentLink1Description: Manufacturer; ComponentLink1URL: http://www.we-online.de; ComponentLink2Description: Datasheet; ComponentLink2URL: https://www.we-online.com/catalog/datasheet/7447773062.pdf; Mounting Technology: SMT; Operating Temperature: -40 to +150degC; Packaging: Tape and Reel; DC Resistance max.: 30mOhm; Inductance: 6.2uH; Rated Current: 3.2A; Size: 7345P; Height: 4.5mm; Length: 7.3mm; Width: 7.4mm
footprint WE-PD_7345P
pins: 1, 2

## 7447773100
designator L?, comment 10uH, 2.6A
WE-PD SMT Power Inductor, size 7345P, 10uH, 2.6A, 45mOhm; Manufacturer: Wurth Elektronik; Manufacturer Part Number: 7447773100; Self Resonant Frequency: 23MHz; DC Resistance typ.: 37.5mOhm; Saturation Current: 3.8A; Type: Performance; ComponentLink1Description: Manufacturer; ComponentLink1URL: http://www.we-online.de; ComponentLink2Description: Datasheet; ComponentLink2URL: https://www.we-online.com/catalog/datasheet/7447773100.pdf; Mounting Technology: SMT; Operating Temperature: -40 to +150degC; Packaging: Tape and Reel; DC Resistance max.: 45mOhm; Inductance: 10uH; Rated Current: 2.6A; Size: 7345P; Height: 4.5mm; Length: 7.3mm; Width: 7.4mm
footprint WE-PD_7345P
pins: 1, 2

## 7447773101
designator L?, comment 100uH, 0.97A
WE-PD SMT Power Inductor, size 7345P, 100uH, 0.97A, 335mOhm; Manufacturer: Wurth Elektronik; Manufacturer Part Number: 7447773101; Self Resonant Frequency: 6.7MHz; DC Resistance typ.: 270mOhm; Saturation Current: 1.2A; Type: Performance; ComponentLink1Description: Manufacturer; ComponentLink1URL: http://www.we-online.de; ComponentLink2Description: Datasheet; ComponentLink2URL: https://www.we-online.com/catalog/datasheet/7447773101.pdf; Mounting Technology: SMT; Operating Temperature: -40 to +150degC; Packaging: Tape and Reel; DC Resistance max.: 335mOhm; Inductance: 100uH; Rated Current: 0.97A; Size: 7345P; Height: 4.5mm; Length: 7.3mm; Width: 7.4mm
footprint WE-PD_7345P
pins: 1, 2

## 7447773102
designator L?, comment 1000uH, 0.3A
WE-PD SMT Power Inductor, size 7345P, 1000uH, 0.3A, 3300mOhm; Manufacturer: Wurth Elektronik; Manufacturer Part Number: 7447773102; Self Resonant Frequency: 1.9MHz; DC Resistance typ.: 2850mOhm; Saturation Current: 0.38A; Type: Performance; ComponentLink1Description: Manufacturer; ComponentLink1URL: http://www.we-online.de; ComponentLink2Description: Datasheet; ComponentLink2URL: https://www.we-online.com/catalog/datasheet/7447773102.pdf; Mounting Technology: SMT; Operating Temperature: -40 to +150degC; Packaging: Tape and Reel; DC Resistance max.: 3300mOhm; Inductance: 1000uH; Rated Current: 0.3A; Size: 7345P; Height: 4.5mm; Length: 7.3mm; Width: 7.4mm
footprint WE-PD_7345P
pins: 1, 2

## 7447773150
designator L?, comment 15uH, 2.2A
WE-PD SMT Power Inductor, size 7345P, 15uH, 2.2A, 69.5mOhm; Manufacturer: Wurth Elektronik; Manufacturer Part Number: 7447773150; Self Resonant Frequency: 20.7MHz; DC Resistance typ.: 53mOhm; Saturation Current: 3.1A; Type: Performance; ComponentLink1Description: Manufacturer; ComponentLink1URL: http://www.we-online.de; ComponentLink2Description: Datasheet; ComponentLink2URL: https://www.we-online.com/catalog/datasheet/7447773150.pdf; Mounting Technology: SMT; Operating Temperature: -40 to +150degC; Packaging: Tape and Reel; DC Resistance max.: 69.5mOhm; Inductance: 15uH; Rated Current: 2.2A; Size: 7345P; Height: 4.5mm; Length: 7.3mm; Width: 7.4mm
footprint WE-PD_7345P
pins: 1, 2

## 7447773151
designator L?, comment 150uH, 0.78A
WE-PD SMT Power Inductor, size 7345P, 150uH, 0.78A, 515mOhm; Manufacturer: Wurth Elektronik; Manufacturer Part Number: 7447773151; Self Resonant Frequency: 5.2MHz; DC Resistance typ.: 410mOhm; Saturation Current: 0.95A; Type: Performance; ComponentLink1Description: Manufacturer; ComponentLink1URL: http://www.we-online.de; ComponentLink2Description: Datasheet; ComponentLink2URL: https://www.we-online.com/catalog/datasheet/7447773151.pdf; Mounting Technology: SMT; Operating Temperature: -40 to +150degC; Packaging: Tape and Reel; DC Resistance max.: 515mOhm; Inductance: 150uH; Rated Current: 0.78A; Size: 7345P; Height: 4.5mm; Length: 7.3mm; Width: 7.4mm
footprint WE-PD_7345P
pins: 1, 2

## 7447773220
designator L?, comment 22uH, 1.85A
WE-PD SMT Power Inductor, size 7345P, 22uH, 1.85A, 87mOhm; Manufacturer: Wurth Elektronik; Manufacturer Part Number: 7447773220; Self Resonant Frequency: 16.1MHz; DC Resistance typ.: 75mOhm; Saturation Current: 2.5A; Type: Performance; ComponentLink1Description: Manufacturer; ComponentLink1URL: http://www.we-online.de; ComponentLink2Description: Datasheet; ComponentLink2URL: https://www.we-online.com/catalog/datasheet/7447773220.pdf; Mounting Technology: SMT; Operating Temperature: -40 to +150degC; Packaging: Tape and Reel; DC Resistance max.: 87mOhm; Inductance: 22uH; Rated Current: 1.85A; Size: 7345P; Height: 4.5mm; Length: 7.3mm; Width: 7.4mm
footprint WE-PD_7345P
pins: 1, 2

## 7447773221
designator L?, comment 220uH, 0.63A
WE-PD SMT Power Inductor, size 7345P, 220uH, 0.63A, 770mOhm; Manufacturer: Wurth Elektronik; Manufacturer Part Number: 7447773221; Self Resonant Frequency: 4.3MHz; DC Resistance typ.: 640mOhm; Saturation Current: 0.81A; Type: Performance; ComponentLink1Description: Manufacturer; ComponentLink1URL: http://www.we-online.de; ComponentLink2Description: Datasheet; ComponentLink2URL: https://www.we-online.com/catalog/datasheet/7447773221.pdf; Mounting Technology: SMT; Operating Temperature: -40 to +150degC; Packaging: Tape and Reel; DC Resistance max.: 770mOhm; Inductance: 220uH; Rated Current: 0.63A; Size: 7345P; Height: 4.5mm; Length: 7.3mm; Width: 7.4mm
footprint WE-PD_7345P
pins: 1, 2

## 7447773330
designator L?, comment 33uH, 1.45A
WE-PD SMT Power Inductor, size 7345P, 33uH, 1.45A, 147mOhm; Manufacturer: Wurth Elektronik; Manufacturer Part Number: 7447773330; Self Resonant Frequency: 13.5MHz; DC Resistance typ.: 120mOhm; Saturation Current: 2.1A; Type: Performance; ComponentLink1Description: Manufacturer; ComponentLink1URL: http://www.we-online.de; ComponentLink2Description: Datasheet; ComponentLink2URL: https://www.we-online.com/catalog/datasheet/7447773330.pdf; Mounting Technology: SMT; Operating Temperature: -40 to +150degC; Packaging: Tape and Reel; DC Resistance max.: 147mOhm; Inductance: 33uH; Rated Current: 1.45A; Size: 7345P; Height: 4.5mm; Length: 7.3mm; Width: 7.4mm
footprint WE-PD_7345P
pins: 1, 2

## 7447773331
designator L?, comment 330uH, 0.53A
WE-PD SMT Power Inductor, size 7345P, 330uH, 0.53A, 1085mOhm; Manufacturer: Wurth Elektronik; Manufacturer Part Number: 7447773331; Self Resonant Frequency: 3.6MHz; DC Resistance typ.: 900mOhm; Saturation Current: 0.66A; Type: Performance; ComponentLink1Description: Manufacturer; ComponentLink1URL: http://www.we-online.de; ComponentLink2Description: Datasheet; ComponentLink2URL: https://www.we-online.com/catalog/datasheet/7447773331.pdf; Mounting Technology: SMT; Operating Temperature: -40 to +150degC; Packaging: Tape and Reel; DC Resistance max.: 1085mOhm; Inductance: 330uH; Rated Current: 0.53A; Size: 7345P; Height: 4.5mm; Length: 7.3mm; Width: 7.4mm
footprint WE-PD_7345P
pins: 1, 2